# Altium integrated library LEDCube.IntLib: 19 symbols
Pins are listed as number, name and electrical type; pins without a type are passive.

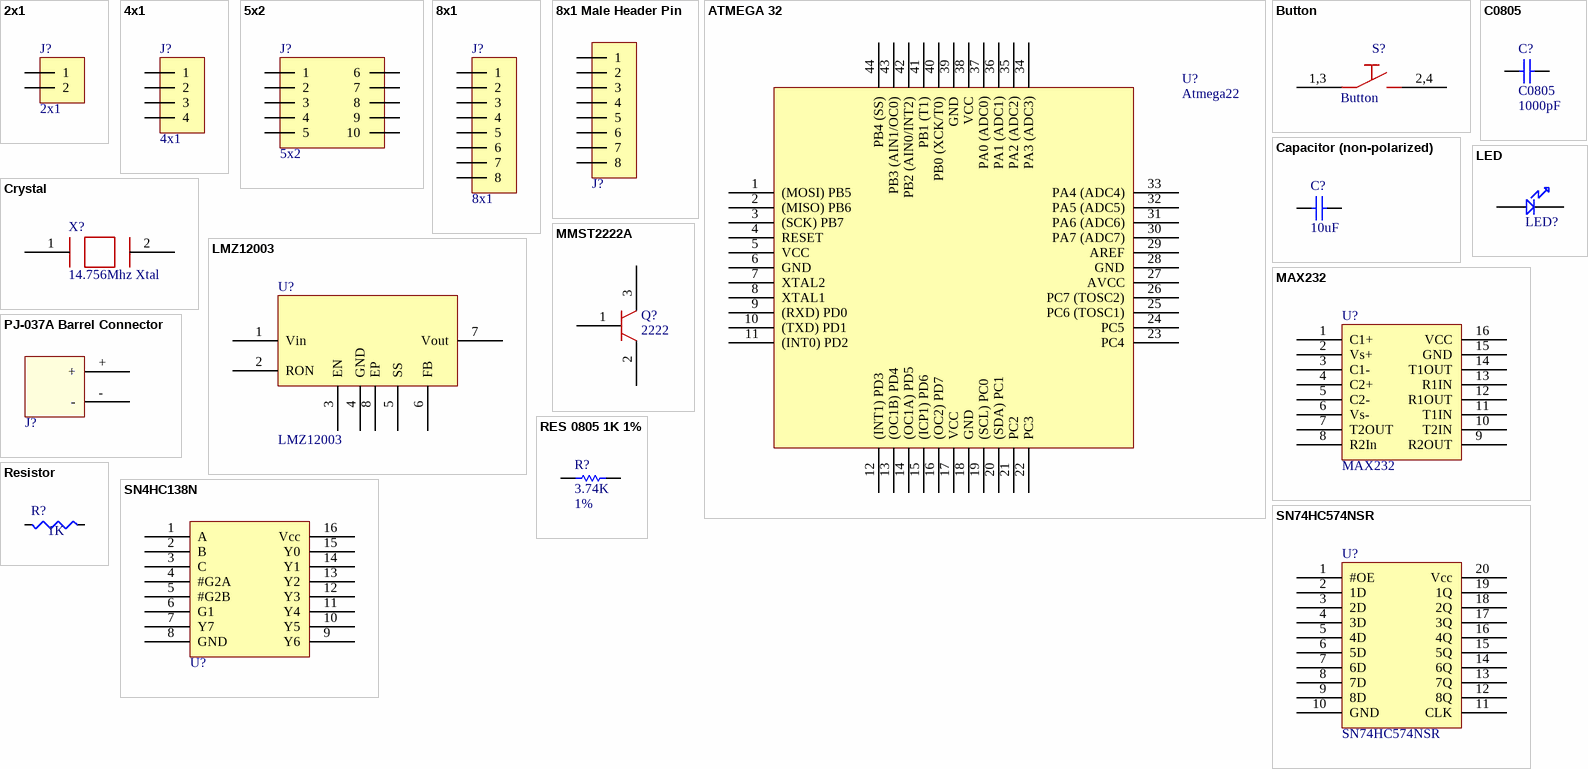
[diagram p0: symbols 2x1 to SN74HC574NSR]

## 2x1
designator J?
2x1 100mil Header
footprint Male 2X1
pins: 1, 2

## 4x1
designator J?
4x1 100mil Header
footprint Male 4x1
pins: 1, 2, 3, 4

## 5x2
designator J?
5x2 100mil Header
footprint Male 5x2
pins: 1, 2, 3, 4, 5, 6, 7, 8, 9, 10

## 8x1
designator J?
8x1 100mil Header
footprint 8x1 (Footprint not found)
footprint Male 8x1
pins: 1, 2, 3, 4, 5, 6, 7, 8

## 8x1 Male Header Pin
designator J?  (value not drawn)
8x1 100mil Header
footprint 8x1 (Footprint not found)
footprint Male 8x1
pins: 1, 2, 3, 4, 5, 6, 7, 8

## ATMEGA 32
designator U?, comment Atmega22
IC MCU 8BIT 8KB FLASH 44TQFP
footprint Quad44
pins: 1 (MOSI) PB5, 2 (MISO) PB6, 3 (SCK) PB7, 4 RESET, 5 VCC, 6 GND, 7 XTAL2, 8 XTAL1, 9 (RXD) PD0, 10 (TXD) PD1, 11 (INT0) PD2, 12 (INT1) PD3, 13 (OC1B) PD4, 14 (OC1A) PD5, 15 (ICP1) PD6, 16 (OC2) PD7, 17 VCC, 18 GND, 19 (SCL) PC0, 20 (SDA) PC1, 21 PC2, 22 PC3, 23 PC4, 24 PC5, 25 PC6 (TOSC1), 26 PC7 (TOSC2), 27 AVCC, 28 GND, 29 AREF, 30 PA7 (ADC7), 31 PA6 (ADC6), 32 PA5 (ADC5), 33 PA4 (ADC4), 34 PA3 (ADC3), 35 PA2 (ADC2), 36 PA1 (ADC1), 37 PA0 (ADC0), 38 VCC, 39 GND, 40 PB0 (XCK/T0), 41 PB1 (T1), 42 PB2 (AIN0/INT2), 43 PB3 (AIN1/OC0), 44 PB4 (SS)

## Button
designator S?
footprint B3F-1000 (OMRON Electronics Pushbutton Tactile SPST-NO 0.05A 24V)
pins: 1,3 1, 2,4 2

## C0805
designator C?  value 1000pF
Ceramic Chip Capacitor - Standard; Note: Footprint corresponds to dimensions for bulk cassette packaging. This case size has tightened tolerances.; Published: 17-Jul-2002; LatestRevisionDate: 19-Mar-2004; LatestRevisionNote: Silkscreen size reduced.; DatasheetDocument: Mar-2001; PackageDocument: Mar-2001; PackageReference: 0805; Publisher: Altium Limited; Code_JEITA: 0805; Code_IPC: 2012[0805]; ComponentLink1Description: Manufacturer Link; ComponentLink1URL: http://www.kemet.com/; ComponentLink2Description: Datasheet; ComponentLink2URL: http://www.kemet.com/kemet/web/homepage/kechome.nsf/vapubfilesname/F3102TA.pdf/$file/F3102TA.pdf
footprint 0805 (Chip Capacitor; Body 2.0 x 1.2 mm (LxW typ))
simulation model CAP (Capacitor)
signal-integrity model C0805
pins: 1, 2

## Capacitor (non-polarized)
designator C?, comment 10uF
Capacitor; Voltage Rating: 25 V; Value: 10uF
footprint 0805 (2012) Capacitor
footprint 0402 (1005) CAPACITOR (0402 (1005) Capacitor)
footprint 1206 (3216) Capacitor
footprint 1210 (3225) Capacitor
pins: 1, 2

## Crystal
designator X?, comment 14.756Mhz Xtal
footprint PCBComponent_1
pins: 1, 2

## LED
designator LED?  (value not drawn)
Standard LED
footprint LED 0402
footprint LED 0805
footprint LED 0805
pins: 1, 2

## LMZ12003
designator U?
footprint 7-Lead PFM (Non-Isolated PoL Module TI)
pins: 1 Vin, 2 RON, 3 EN, 4 GND, 5 SS, 6 FB, 7 Vout, 8 EP

## MAX232
designator U?
IC DUAL EIA-232 DRVR/RCVR 16SOIC
footprint SOP16
pins: 1 C1+, 2 Vs+, 3 C1-, 4 C2+, 5 C2-, 6 Vs-, 7 T2OUT, 8 R2In, 9 R2OUT, 10 T2IN, 11 T1IN, 12 R1OUT, 13 R1IN, 14 T1OUT, 15 GND, 16 VCC

## MMST2222A
designator Q?, comment 2222
Trans NPN Bipolar 40V
footprint SOT-23 (SOT23, 3-Leads, Body 3.0x2.5mm (max), Pitch 0.95mm, IPC Medium Density)
pins: 1 B, 2 E, 3 C

## PJ-037A Barrel Connector
designator J?  (value not drawn)
CON PWR JCK 2.0 X 6.5MM W/O SW
footprint PJ-037A (CON PWR JCK 2.0 X 6.5MM W/O SW)
pins: +, -

## RES 0805 1K 1%
designator R?, comment Tolerance: 1%  (hidden comment: 3.74K)
Value: 3.74K
footprint R 0805 (2012) RESISTOR (0805 (2012) Resistor)
pins: 1, 2

## Resistor
designator R?, comment 1K
Resistor; Value: 0Ohm
footprint R 0402 (1005) RESISTOR (0402 (1005) Resistor)
footprint R 0805 (2012) RESISTOR (0805 (2012) Resistor)
footprint R 1206 (3216) RESISTOR (1206 (3216) Resistor)
footprint R 1210 (3225) RESISTOR (1210 (3225) Resistor)
footprint R 0603 (1608) RESISTOR (0603 (1608) Resistor)
footprint 0805 (2012) Capacitor
pins: 1, 2

## SN4HC138N
designator U?, comment SN74HC138N  (value not drawn)
IC DECODER/DEMUX 3-8 LINE 16SO
footprint SOP16
pins: 1 A, 2 B, 3 C, 4 #G2A, 5 #G2B, 6 G1, 7 Y7, 8 GND (power), 9 Y6, 10 Y5, 11 Y4, 12 Y3, 13 Y2, 14 Y1, 15 Y0, 16 Vcc (power)

## SN74HC574NSR
designator U?
IC D-TYPE POS TRG SNGL 20SO
footprint TSSOP 20 (R PDSO G20, TI)
pins: 1 #OE, 2 1D, 3 2D, 4 3D, 5 4D, 6 5D, 7 6D, 8 7D, 9 8D, 10 GND (power), 11 CLK, 12 8Q, 13 7Q, 14 6Q, 15 5Q, 16 4Q, 17 3Q, 18 2Q, 19 1Q, 20 Vcc (power)